# EAGLE library part LMP91000 (library LinnesLab-Sensors)
Integrated Potentiostat for Electrochemical Measurements of Gases and Fluids from Texas Instruments.
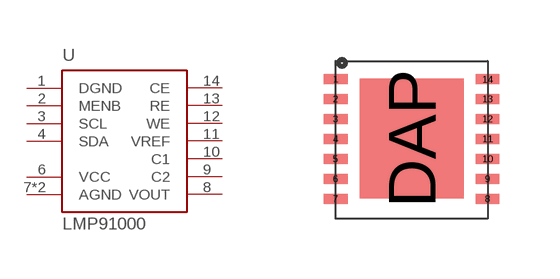
[diagram p9: symbol with the pads of WSON-14; footprint WSON-14]

Designator prefix U

## LMP91000  [WSON-14]
1  DGND
2  MENB
3  SCL
4  SDA
6  VCC
7  AGND
8  VOUT
9  C2
10  C1
11  VREF
12  WE
13  RE
14  CE
DAP  AGND

## Footprint WSON-14 (pad centres in mm)
smd 0.6 x 0.25: 1 0,3.5; 2 0,3; 3 0,2.5; 4 0,2; 5 0,1.5; 6 0,1; 7 0,0.5; 8 3.8,0.5; 9 3.8,1; 10 3.8,1.5; 11 3.8,2; 12 3.8,2.5; 13 3.8,3; 14 3.8,3.49
smd 2.6 x 3: DAP 1.9,2.008